# Altium footprint library LC-CASE-A_3216.PcbLib: 1 footprints
Each footprint in its own frame and in the unit in brackets; x right, y up, seen from the top. Pads: shape width x height; smd on the part's side, far side on the other; paste and mask are expansions set on the pad; w line width, h text height; cw(c..) or ccw(c..) is an arc to the next point about the centre after c.
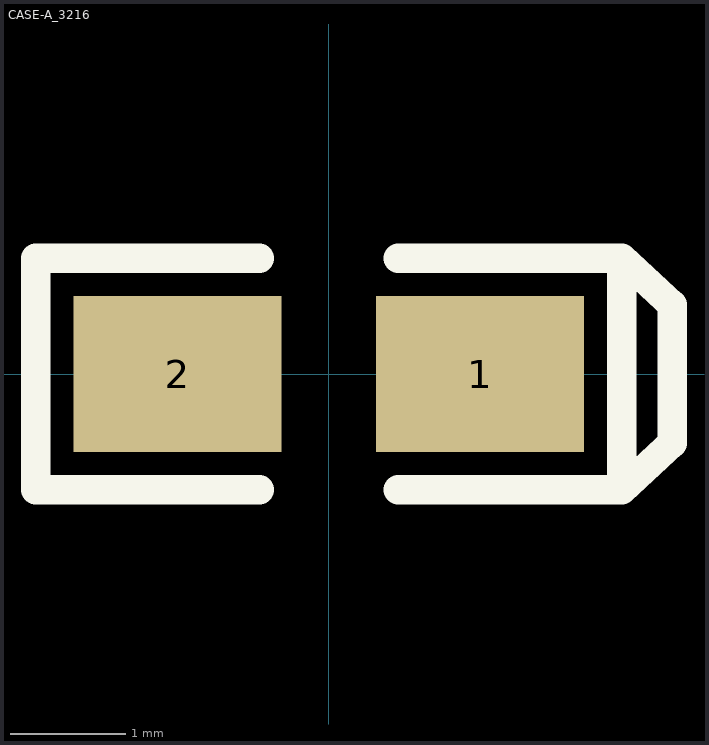
[diagram p0: the footprint, top view; thin cyan lines are the x and y axes]

## CASE-A_3216 [mm]
pads (2):
  rect 1.8x1.35 smd: 1(1.31,0) 2(-1.31,0)
Top Overlay:
  lines w0.254: -0.6,-1.002 -2.537,-1.002 -2.537,1.002 -0.6,1.002 ; 0.6,-1.002 2.537,-1.002 ; 0.6,1.002 2.537,1.002 ; 2.537,-1.002 2.973,-0.6 2.973,0.6 2.537,1.002 ; 2.537,-1.002 2.537,1.002
3D body "User Library-AVX_ACASE.STEP": height 1.71, standoff 0, extent -1.7,-0.84 1.7,0.84